# Altium schematic symbol library GOST_2_736.SchLib: 1 symbol
Pins are listed as number, name and electrical type; pins without a type are passive.

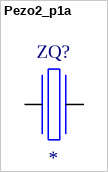
[diagram p0: symbol Pezo2_p1a]

## Pezo2_p1a
designator ZQ?
ValueSch: *
pins: 1, 2